# Altium footprint library st-microelectronics.PCBLIB: 49 footprints (part 2 of 4)
Each footprint in its own frame and in the unit in brackets; x right, y up, seen from the top. Pads: shape width x height; smd on the part's side, far side on the other; paste and mask are expansions set on the pad; w line width, h text height; cw(c..) or ccw(c..) is an arc to the next point about the centre after c.
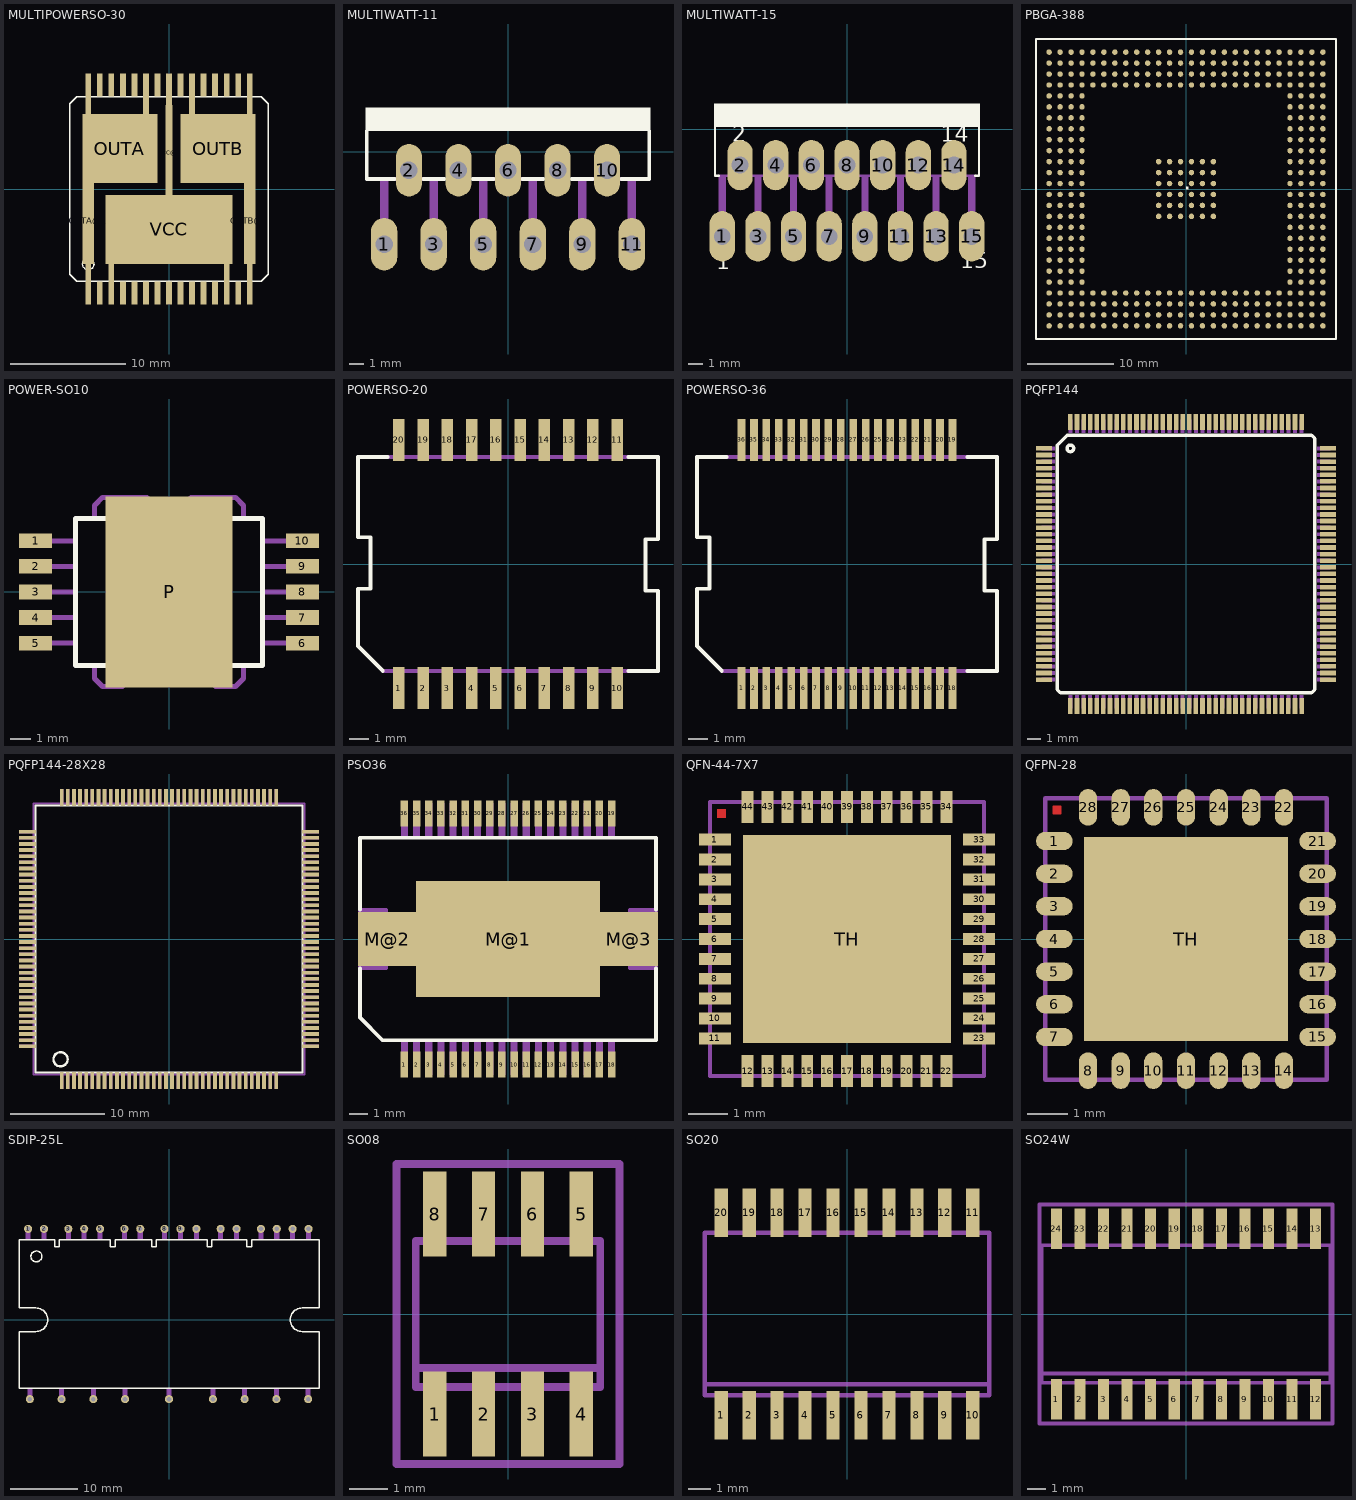
[diagram p1: the footprints below, top view; thin cyan lines are the x and y axes]

## MULTIPOWERSO-30 [mm]
pads (36):
  rect 0.508x12 smd: 1(-7,-4) 15(7,-4) 16(7,4) 30(-7,4)
  rect 0.508x2 smd: 2(-6,-9) 4(-4,-9) 5(-3,-9) 6(-2,-9) 7(-1,-9) 8(0,-9) 9(1,-9) 10(2,-9) 11(3,-9) 12(4,-9) 14(6,-9) 17(6,9) 18(5,9) 19(4,9) 20(3,9) 22(1,9) 24(-1,9) 26(-3,9) 27(-4,9) 28(-5,9) 29(-6,9)
  rect 0.508x4 smd: 3(-5,-8) 13(5,-8) 21(2,8) 23(0,8) 25(-2,8)
  rect 6.5x6 smd: OUTA(-4.25,3.5) OUTB(4.25,3.5)
  rect 1x7.5 smd: OUTA@1(-7,-2.755) OUTB@1(7,-2.755)
  rect 11x6 smd: VCC(0,-3.5)
  rect 0.65x8.3 smd: VCC@1(0,3.145)
Top Overlay:
  circle w0.127: c-7,-6.5 r0.5
  lines w0.127: -8.6,-7.4 -8,-8 8,-8 8.6,-7.4 8.6,7.4 8,8 -8,8 -8.6,7.4 -8.6,-7.4
Top Paste:
  circle w0: c-6,5.5 r0.3
  circle w0: c-4,5.5 r0.3
  circle w0: c-2,5.5 r0.3
  circle w0: c2,5.5 r0.3
  circle w0: c4,5.5 r0.3
  circle w0: c6,5.5 r0.3
  circle w0: c-6,3.5 r0.3
  circle w0: c-4,3.5 r0.3
  circle w0: c-2,3.5 r0.3
  circle w0: c2,3.5 r0.3
  circle w0: c4,3.5 r0.3
  circle w0: c6,3.5 r0.3
  circle w0: c-6,1.5 r0.3
  circle w0: c-4,1.5 r0.3
  circle w0: c-2,1.5 r0.3
  circle w0: c2,1.5 r0.3
  circle w0: c4,1.5 r0.3
  circle w0: c6,1.5 r0.3
  circle w0: c-4,-1.5 r0.3
  circle w0: c-2,-1.5 r0.3
  circle w0: c0,-1.5 r0.3
  circle w0: c2,-1.5 r0.3
  circle w0: c4,-1.5 r0.3
  circle w0: c-4,-3.5 r0.3
  circle w0: c-2,-3.5 r0.3
  circle w0: c0,-3.5 r0.3
  circle w0: c2,-3.5 r0.3
  circle w0: c4,-3.5 r0.3
  circle w0: c-4,-5.5 r0.3
  circle w0: c-2,-5.5 r0.3
  circle w0: c0,-5.5 r0.3
  circle w0: c2,-5.5 r0.3
  circle w0: c4,-5.5 r0.3
  rectangle: -7.25,7.995 -6.75,9.995
  rectangle: -2.25,7.995 -1.75,9.995
  rectangle: -0.25,7.995 0.25,9.995
  rectangle: 1.75,7.995 2.25,9.995
  rectangle: 6.75,7.995 7.25,9.995
  region: -6.75,-7.995 -7.25,-7.995 -7.25,-9.995 -6.75,-9.995
  region: -4.75,-7.995 -5.25,-7.995 -5.25,-9.995 -4.75,-9.995
  region: 5.25,-7.995 4.75,-7.995 4.75,-9.995 5.25,-9.995
  region: 7.25,-7.995 6.75,-7.995 6.75,-9.995 7.25,-9.995
Top Solder:
  circle w0: c-6,5.5 r0.4
  circle w0: c-4,5.5 r0.4
  circle w0: c-2,5.5 r0.4
  circle w0: c2,5.5 r0.4
  circle w0: c4,5.5 r0.4
  circle w0: c6,5.5 r0.4
  circle w0: c-6,3.5 r0.4
  circle w0: c-4,3.5 r0.4
  circle w0: c-2,3.5 r0.4
  circle w0: c2,3.5 r0.4
  circle w0: c4,3.5 r0.4
  circle w0: c6,3.5 r0.4
  circle w0: c-6,1.5 r0.4
  circle w0: c-4,1.5 r0.4
  circle w0: c-2,1.5 r0.4
  circle w0: c2,1.5 r0.4
  circle w0: c4,1.5 r0.4
  circle w0: c6,1.5 r0.4
  circle w0: c-4,-1.5 r0.4
  circle w0: c-2,-1.5 r0.4
  circle w0: c0,-1.5 r0.4
  circle w0: c2,-1.5 r0.4
  circle w0: c4,-1.5 r0.4
  circle w0: c-4,-3.5 r0.4
  circle w0: c-2,-3.5 r0.4
  circle w0: c0,-3.5 r0.4
  circle w0: c2,-3.5 r0.4
  circle w0: c4,-3.5 r0.4
  circle w0: c-4,-5.5 r0.4
  circle w0: c-2,-5.5 r0.4
  circle w0: c0,-5.5 r0.4
  circle w0: c2,-5.5 r0.4
  circle w0: c4,-5.5 r0.4
  rectangle: -7.35,7.895 -6.65,10.095
  rectangle: -2.35,7.895 -1.65,10.095
  rectangle: -0.35,7.895 0.35,10.095
  rectangle: 1.65,7.895 2.35,10.095
  rectangle: 6.65,7.895 7.35,10.095
  region: -6.65,-7.895 -7.35,-7.895 -7.35,-10.095 -6.65,-10.095
  region: -4.65,-7.895 -5.35,-7.895 -5.35,-10.095 -4.65,-10.095
  region: 5.35,-7.895 4.65,-7.895 4.65,-10.095 5.35,-10.095
  region: 7.35,-7.895 6.65,-7.895 6.65,-10.095 7.35,-10.095

## MULTIWATT-11 [mil]
pads (11):
  oval 70.86x141.72 hole 47.24: 1(-334.65,-250) 2(-267.72,-50) 3(-200.79,-250) 4(-133.86,-50) 5(-66.93,-250) 6(0,-50) 7(66.93,-250) 8(133.86,-50) 9(200.79,-250) 10(267.72,-50) 11(334.65,-250)
Top Overlay:
  rectangle: -385.83,56.3 385.83,119.29
  lines w10: -381.89,56.3 -381.89,-73.62 -307.09,-73.62 ; -228.35,-73.62 -173.23,-73.62 ; -94.49,-73.62 -39.37,-73.62 ; 39.37,-73.62 94.49,-73.62 ; 173.23,-73.62 228.35,-73.62 ; 307.09,-73.62 381.89,-73.62 381.89,56.3
Mechanical 16:
  rectangle: -346.46,-258.66 -322.83,-211.42
  rectangle: -346.46,-215.35 -322.83,-77.56
  rectangle: -212.6,-258.66 -188.98,-211.42
  rectangle: -212.6,-215.35 -188.98,-77.56
  rectangle: -78.74,-258.66 -55.12,-211.42
  rectangle: -78.74,-215.35 -55.12,-77.56
  rectangle: 55.12,-258.66 78.74,-211.42
  rectangle: 55.12,-215.35 78.74,-77.56
  rectangle: 188.98,-258.66 212.6,-211.42
  rectangle: 188.98,-215.35 212.6,-77.56
  rectangle: 322.83,-258.66 346.46,-211.42
  rectangle: 322.83,-215.35 346.46,-77.56
  lines w10: -381.89,-73.62 381.89,-73.62

## MULTIWATT-15 [mil]
pads (15):
  oval 70.86x141.72 hole 47.24: 1(-350,-300) 2(-300,-100) 3(-250,-300) 4(-200,-100) 5(-150,-300) 6(-100,-100) 7(-50,-300) 8(0,-100) 9(50,-300) 10(100,-100) 11(150,-300) 12(200,-100) 13(250,-300) 14(300,-100) 15(350,-300)
Top Overlay:
  rectangle: -373.03,6.89 373.03,72.83
  lines w6: -370,10 -370,-130 -360,-130 ; 360,-130 370,-130 370,10
  text "1" at -367.22,-407.02 h77.5
  text "15" at 317.23,-404.69 h77.5
  text "2" at -321.91,-50 h77.5
  text "14" at 262.54,-50 h77.5
Mechanical 16:
  rectangle: -360,-240 -340,-130
  rectangle: -260,-240 -240,-130
  rectangle: -160,-240 -140,-130
  rectangle: -60,-240 -40,-130
  rectangle: 40,-240 60,-130
  rectangle: 140,-240 160,-130
  rectangle: 240,-240 260,-130
  rectangle: 340,-240 360,-130
  lines w6: -360,-130 360,-130

## PBGA-388 [mil]
pads (388):
  rrect100% 25x25 smd: A1(-625,625) A2(-575,625) A3(-525,625) A4(-475,625) A5(-425,625) A6(-375,625) A7(-325,625) A8(-275,625) A9(-225,625) A10(-175,625) A11(-125,625) A12(-75,625) A13(-25,625) A14(25,625) A15(75,625) A16(125,625) A17(175,625) A18(225,625) A19(275,625) A20(325,625) A21(375,625) A22(425,625) A23(475,625) A24(525,625) A25(575,625) A26(625,625) AA1(-625,-375) AA2(-575,-375) AA3(-525,-375) AA4(-475,-375) AA23(475,-375) AA24(525,-375) AA25(575,-375) AA26(625,-375) AB1(-625,-425) AB2(-575,-425) AB3(-525,-425) AB4(-475,-425) AB23(475,-425) AB24(525,-425) AB25(575,-425) AB26(625,-425) AC1(-625,-475) AC2(-575,-475) AC3(-525,-475) AC4(-475,-475) AC5(-425,-475) AC6(-375,-475) AC7(-325,-475) AC8(-275,-475) AC9(-225,-475) AC10(-175,-475) AC11(-125,-475) AC12(-75,-475) AC13(-25,-475) AC14(25,-475) AC15(75,-475) AC16(125,-475) AC17(175,-475) AC18(225,-475) AC19(275,-475) AC20(325,-475) AC21(375,-475) AC22(425,-475) AC23(475,-475) AC24(525,-475) AC25(575,-475) AC26(625,-475) AD1(-625,-525) AD2(-575,-525) AD3(-525,-525) AD4(-475,-525) AD5(-425,-525) AD6(-375,-525) AD7(-325,-525) AD8(-275,-525) AD9(-225,-525) AD10(-175,-525) AD11(-125,-525) AD12(-75,-525) AD13(-25,-525) AD14(25,-525) AD15(75,-525) AD16(125,-525) AD17(175,-525) AD18(225,-525) AD19(275,-525) AD20(325,-525) AD21(375,-525) AD22(425,-525) AD23(475,-525) AD24(525,-525) AD25(575,-525) AD26(625,-525) AE1(-625,-575) AE2(-575,-575) AE3(-525,-575) AE4(-475,-575) AE5(-425,-575) AE6(-375,-575) AE7(-325,-575) AE8(-275,-575) AE9(-225,-575) AE10(-175,-575) AE11(-125,-575) AE12(-75,-575) AE13(-25,-575) AE14(25,-575) AE15(75,-575) AE16(125,-575) AE17(175,-575) AE18(225,-575) AE19(275,-575) AE20(325,-575) AE21(375,-575) AE22(425,-575) AE23(475,-575) AE24(525,-575) AE25(575,-575) AE26(625,-575) AF1(-625,-625) AF2(-575,-625) AF3(-525,-625) AF4(-475,-625) AF5(-425,-625) AF6(-375,-625) AF7(-325,-625) AF8(-275,-625) AF9(-225,-625) AF10(-175,-625) AF11(-125,-625) AF12(-75,-625) AF13(-25,-625) AF14(25,-625) AF15(75,-625) AF16(125,-625) AF17(175,-625) AF18(225,-625) AF19(275,-625) AF20(325,-625) AF21(375,-625) AF22(425,-625) AF23(475,-625) AF24(525,-625) AF25(575,-625) AF26(625,-625) B1(-625,575) B2(-575,575) B3(-525,575) B4(-475,575) B5(-425,575) B6(-375,575) B7(-325,575) B8(-275,575) B9(-225,575) B10(-175,575) B11(-125,575) B12(-75,575) B13(-25,575) B14(25,575) B15(75,575) B16(125,575) B17(175,575) B18(225,575) B19(275,575) B20(325,575) B21(375,575) B22(425,575) B23(475,575) B24(525,575) B25(575,575) B26(625,575) C1(-625,525) C2(-575,525) C3(-525,525) C4(-475,525) C5(-425,525) C6(-375,525) C7(-325,525) C8(-275,525) C9(-225,525) C10(-175,525) C11(-125,525) C12(-75,525) C13(-25,525) C14(25,525) C15(75,525) C16(125,525) C17(175,525) C18(225,525) C19(275,525) C20(325,525) C21(375,525) C22(425,525) C23(475,525) C24(525,525) C25(575,525) C26(625,525) D1(-625,475) D2(-575,475) D3(-525,475) D4(-475,475) D5(-425,475) D6(-375,475) D7(-325,475) D8(-275,475) D9(-225,475) D10(-175,475) D11(-125,475) D12(-75,475) D13(-25,475) D14(25,475) D15(75,475) D16(125,475) D17(175,475) D18(225,475) D19(275,475) D20(325,475) D21(375,475) D22(425,475) D23(475,475) D24(525,475) D25(575,475) D26(625,475) E1(-625,425) E2(-575,425) E3(-525,425) E4(-475,425) E23(475,425) E24(525,425) E25(575,425) E26(625,425) F1(-625,375) F2(-575,375) F3(-525,375) F4(-475,375) F23(475,375) F24(525,375) F25(575,375) F26(625,375) G1(-625,325) G2(-575,325) G3(-525,325) G4(-475,325) G23(475,325) G24(525,325) G25(575,325) G26(625,325) H1(-625,275) H2(-575,275) H3(-525,275) H4(-475,275) H23(475,275) H24(525,275) H25(575,275) H26(625,275) J1(-625,225) J2(-575,225) J3(-525,225) J4(-475,225) J23(475,225) J24(525,225) J25(575,225) J26(625,225) K1(-625,175) K2(-575,175) K3(-525,175) K4(-475,175) K23(475,175) K24(525,175) K25(575,175) K26(625,175) L1(-625,125) L2(-575,125) L3(-525,125) L4(-475,125) L11(-125,125) L12(-75,125) L13(-25,125) L14(25,125) L15(75,125) L16(125,125) L23(475,125) L24(525,125) L25(575,125) L26(625,125) M1(-625,75) M2(-575,75) M3(-525,75) M4(-475,75) M11(-125,75) M12(-75,75) M13(-25,75) M14(25,75) M15(75,75) M16(125,75) M23(475,75) M24(525,75) M25(575,75) M26(625,75) N1(-625,25) N2(-575,25) N3(-525,25) N4(-475,25) N11(-125,25) N12(-75,25) N13(-25,25) N14(25,25) N15(75,25) N16(125,25) N23(475,25) N24(525,25) N25(575,25) N26(625,25) P1(-625,-25) P2(-575,-25) P3(-525,-25) P4(-475,-25) P11(-125,-25) P12(-75,-25) P13(-25,-25) P14(25,-25) P15(75,-25) P16(125,-25) P23(475,-25) P24(525,-25) P25(575,-25) P26(625,-25) R1(-625,-75) R2(-575,-75) R3(-525,-75) R4(-475,-75) R11(-125,-75) R12(-75,-75) R13(-25,-75) R14(25,-75) R15(75,-75) R16(125,-75) R23(475,-75) R24(525,-75) R25(575,-75) R26(625,-75) T1(-625,-125) T2(-575,-125) T3(-525,-125) T4(-475,-125) T11(-125,-125) T12(-75,-125) T13(-25,-125) T14(25,-125) T15(75,-125) T16(125,-125) T23(475,-125) T24(525,-125) T25(575,-125) T26(625,-125) U1(-625,-175) U2(-575,-175) U3(-525,-175) U4(-475,-175) U23(475,-175) U24(525,-175) U25(575,-175) U26(625,-175) V1(-625,-225) V2(-575,-225) V3(-525,-225) V4(-475,-225) V23(475,-225) V24(525,-225) V25(575,-225) V26(625,-225) W1(-625,-275) W2(-575,-275) W3(-525,-275) W4(-475,-275) W23(475,-275) W24(525,-275) W25(575,-275) W26(625,-275) Y1(-625,-325) Y2(-575,-325) Y3(-525,-325) Y4(-475,-325) Y23(475,-325) Y24(525,-325) Y25(575,-325) Y26(625,-325)
Top Overlay:
  region: 0,0 10,0 10,10 0,10
  lines w8: -685.04,-685.04 685.04,-685.04 685.04,685.04 -685.04,685.04 -685.04,-685.04

## POWER-SO10 [mm]
pads (11):
  rect 1.65x0.73 smd: 1(-6.625,2.54) 2(-6.625,1.27) 3(-6.625,0) 4(-6.625,-1.27) 5(-6.625,-2.54) 6(6.625,-2.54) 7(6.625,-1.27) 8(6.625,0) 9(6.625,1.27) 10(6.625,2.54)
  rect 6.3x9.5 smd: P(0,0)
Top Overlay:
  lines w0.254: -1,3.6 ccw(c0,3.6) 1,3.6 ; -4.65,-3.65 4.65,-3.65 4.65,3.65 -4.65,3.65 -4.65,-3.65
Mechanical 16:
  rectangle: -7.175,2.413 -4.635,2.667
  rectangle: -7.175,1.143 -4.635,1.397
  rectangle: -7.175,-0.127 -4.635,0.127
  rectangle: -7.175,-1.397 -4.635,-1.143
  rectangle: -7.175,-2.667 -4.635,-2.413
  rectangle: 4.635,-2.667 7.175,-2.413
  rectangle: 4.635,-1.397 7.175,-1.143
  rectangle: 4.635,-0.127 7.175,0.127
  rectangle: 4.635,1.143 7.175,1.397
  rectangle: 4.635,2.413 7.175,2.667
  lines w0.254: -3.7,-3.8 -3.7,-4.3 -3.3,-4.7 -2.3,-4.7 -2.3,-4.5 -2.1,-4.3 2.1,-4.3 2.3,-4.5 2.3,-4.7 3.3,-4.7 3.7,-4.3 3.7,-3.8 ; -3.7,3.8 -3.7,4.3 -3.3,4.7 -1.1,4.7 ccw(c0,5.9) 1.1,4.7 3.3,4.7 3.7,4.3 3.7,3.8

## POWERSO-20 [mil]
pads (20):
  rect 23.62x86.61 smd: 1(-225,-255.91) 2(-175,-255.91) 3(-125,-255.91) 4(-75,-255.91) 5(-25,-255.91) 6(25,-255.91) 7(75,-255.91) 8(125,-255.91) 9(175,-255.91) 10(225,-255.91) 11(225,255.91) 12(175,255.91) 13(125,255.91) 14(75,255.91) 15(25,255.91) 16(-25,255.91) 17(-75,255.91) 18(-125,255.91) 19(-175,255.91) 20(-225,255.91)
Top Overlay:
  lines w8: -309.45,220.47 -309.45,55.12 -283.46,55.12 -283.46,-51.18 -309.45,-51.18 -309.45,-169.29 -258.27,-220.47 ; -307.09,220.47 -248.03,220.47 ; 248.03,-220.47 307.09,-220.47 ; 248.03,220.47 307.09,220.47 ; 309.45,-220.47 309.45,-55.12 283.46,-55.12 283.46,51.18 309.45,51.18 309.45,220.47
Mechanical 16:
  rectangle: -234.65,-284.25 -215.35,-224.41
  rectangle: -184.65,-284.25 -165.35,-224.41
  rectangle: -134.65,-284.25 -115.35,-224.41
  rectangle: -84.65,-284.25 -65.35,-224.41
  rectangle: -34.65,-284.25 -15.35,-224.41
  rectangle: 15.35,-284.25 34.65,-224.41
  rectangle: 65.35,-284.25 84.65,-224.41
  rectangle: 115.35,-284.25 134.65,-224.41
  rectangle: 165.35,-284.25 184.65,-224.41
  rectangle: 215.35,-284.25 234.65,-224.41
  rectangle: 215.35,224.41 234.65,284.25
  rectangle: 165.35,224.41 184.65,284.25
  rectangle: 115.35,224.41 134.65,284.25
  rectangle: 65.35,224.41 84.65,284.25
  rectangle: 15.35,224.41 34.65,284.25
  rectangle: -34.65,224.41 -15.35,284.25
  rectangle: -84.65,224.41 -65.35,284.25
  rectangle: -134.65,224.41 -115.35,284.25
  rectangle: -184.65,224.41 -165.35,284.25
  rectangle: -234.65,224.41 -215.35,284.25
  lines w8: -309.45,220.47 309.45,220.47 ; -258.27,-220.47 309.45,-220.47

## POWERSO-36 [mm]
pads (36):
  rect 0.4x2.2 smd: 1(-5.525,-6.5) 2(-4.875,-6.5) 3(-4.225,-6.5) 4(-3.575,-6.5) 5(-2.925,-6.5) 6(-2.275,-6.5) 7(-1.625,-6.5) 8(-0.975,-6.5) 9(-0.325,-6.5) 10(0.325,-6.5) 11(0.975,-6.5) 12(1.625,-6.5) 13(2.275,-6.5) 14(2.925,-6.5) 15(3.575,-6.5) 16(4.225,-6.5) 17(4.875,-6.5) 18(5.525,-6.5) 19(5.525,6.5) 20(4.875,6.5) 21(4.225,6.5) 22(3.575,6.5) 23(2.925,6.5) 24(2.275,6.5) 25(1.625,6.5) 26(0.975,6.5) 27(0.325,6.5) 28(-0.325,6.5) 29(-0.975,6.5) 30(-1.625,6.5) 31(-2.275,6.5) 32(-2.925,6.5) 33(-3.575,6.5) 34(-4.225,6.5) 35(-4.875,6.5) 36(-5.525,6.5)
Top Overlay:
  lines w0.203: -7.86,5.6 -7.86,1.4 -7.2,1.4 -7.2,-1.3 -7.86,-1.3 -7.86,-4.3 -6.56,-5.6 ; -7.8,5.6 -6.3,5.6 ; 6.3,-5.6 7.8,-5.6 ; 6.3,5.6 7.8,5.6 ; 7.86,-5.6 7.86,-1.4 7.2,-1.4 7.2,1.3 7.86,1.3 7.86,5.6
Mechanical 16:
  rectangle: -5.7,-7.225 -5.35,-5.675
  rectangle: -5.05,-7.225 -4.7,-5.675
  rectangle: -4.4,-7.225 -4.05,-5.675
  rectangle: -3.75,-7.225 -3.4,-5.675
  rectangle: -3.1,-7.225 -2.75,-5.675
  rectangle: -2.45,-7.225 -2.1,-5.675
  rectangle: -1.8,-7.225 -1.45,-5.675
  rectangle: -1.15,-7.225 -0.8,-5.675
  rectangle: -0.5,-7.225 -0.15,-5.675
  rectangle: 0.15,-7.225 0.5,-5.675
  rectangle: 0.8,-7.225 1.15,-5.675
  rectangle: 1.45,-7.225 1.8,-5.675
  rectangle: 2.1,-7.225 2.45,-5.675
  rectangle: 2.75,-7.225 3.1,-5.675
  rectangle: 3.4,-7.225 3.75,-5.675
  rectangle: 4.05,-7.225 4.4,-5.675
  rectangle: 4.7,-7.225 5.05,-5.675
  rectangle: 5.35,-7.225 5.7,-5.675
  rectangle: 5.35,5.675 5.7,7.225
  rectangle: 4.7,5.675 5.05,7.225
  rectangle: 4.05,5.675 4.4,7.225
  rectangle: 3.4,5.675 3.75,7.225
  rectangle: 2.75,5.675 3.1,7.225
  rectangle: 2.1,5.675 2.45,7.225
  rectangle: 1.45,5.675 1.8,7.225
  rectangle: 0.8,5.675 1.15,7.225
  rectangle: 0.15,5.675 0.5,7.225
  rectangle: -0.5,5.675 -0.15,7.225
  rectangle: -1.15,5.675 -0.8,7.225
  rectangle: -1.8,5.675 -1.45,7.225
  rectangle: -2.45,5.675 -2.1,7.225
  rectangle: -3.1,5.675 -2.75,7.225
  rectangle: -3.75,5.675 -3.4,7.225
  rectangle: -4.4,5.675 -4.05,7.225
  rectangle: -5.05,5.675 -4.7,7.225
  rectangle: -5.7,5.675 -5.35,7.225
  lines w0.203: -7.86,5.6 7.86,5.6 ; -6.56,-5.6 7.86,-5.6

## PQFP144 [mm]
pads (144):
  rect 1.2x0.35 smd: 1(-10.75,8.75) 2(-10.75,8.25) 3(-10.75,7.75) 4(-10.75,7.25) 5(-10.75,6.75) 6(-10.75,6.25) 7(-10.75,5.75) 8(-10.75,5.25) 9(-10.75,4.75) 10(-10.75,4.25) 11(-10.75,3.75) 12(-10.75,3.25) 13(-10.75,2.75) 14(-10.75,2.25) 15(-10.75,1.75) 16(-10.75,1.25) 17(-10.75,0.75) 18(-10.75,0.25) 19(-10.75,-0.25) 20(-10.75,-0.75) 21(-10.75,-1.25) 22(-10.75,-1.75) 23(-10.75,-2.25) 24(-10.75,-2.75) 25(-10.75,-3.25) 26(-10.75,-3.75) 27(-10.75,-4.25) 28(-10.75,-4.75) 29(-10.75,-5.25) 30(-10.75,-5.75) 31(-10.75,-6.25) 32(-10.75,-6.75) 33(-10.75,-7.25) 34(-10.75,-7.75) 35(-10.75,-8.25) 36(-10.75,-8.75) 73(10.75,-8.75) 74(10.75,-8.25) 75(10.75,-7.75) 76(10.75,-7.25) 77(10.75,-6.75) 78(10.75,-6.25) 79(10.75,-5.75) 80(10.75,-5.25) 81(10.75,-4.75) 82(10.75,-4.25) 83(10.75,-3.75) 84(10.75,-3.25) 85(10.75,-2.75) 86(10.75,-2.25) 87(10.75,-1.75) 88(10.75,-1.25) 89(10.75,-0.75) 90(10.75,-0.25) 91(10.75,0.25) 92(10.75,0.75) 93(10.75,1.25) 94(10.75,1.75) 95(10.75,2.25) 96(10.75,2.75) 97(10.75,3.25) 98(10.75,3.75) 99(10.75,4.25) 100(10.75,4.75) 101(10.75,5.25) 102(10.75,5.75) 103(10.75,6.25) 104(10.75,6.75) 105(10.75,7.25) 106(10.75,7.75) 107(10.75,8.25) 108(10.75,8.75)
  rect 0.35x1.2 smd: 37(-8.75,-10.75) 38(-8.25,-10.75) 39(-7.75,-10.75) 40(-7.25,-10.75) 41(-6.75,-10.75) 42(-6.25,-10.75) 43(-5.75,-10.75) 44(-5.25,-10.75) 45(-4.75,-10.75) 46(-4.25,-10.75) 47(-3.75,-10.75) 48(-3.25,-10.75) 49(-2.75,-10.75) 50(-2.25,-10.75) 51(-1.75,-10.75) 52(-1.25,-10.75) 53(-0.75,-10.75) 54(-0.25,-10.75) 55(0.25,-10.75) 56(0.75,-10.75) 57(1.25,-10.75) 58(1.75,-10.75) 59(2.25,-10.75) 60(2.75,-10.75) 61(3.25,-10.75) 62(3.75,-10.75) 63(4.25,-10.75) 64(4.75,-10.75) 65(5.25,-10.75) 66(5.75,-10.75) 67(6.25,-10.75) 68(6.75,-10.75) 69(7.25,-10.75) 70(7.75,-10.75) 71(8.25,-10.75) 72(8.75,-10.75) 109(8.75,10.75) 110(8.25,10.75) 111(7.75,10.75) 112(7.25,10.75) 113(6.75,10.75) 114(6.25,10.75) 115(5.75,10.75) 116(5.25,10.75) 117(4.75,10.75) 118(4.25,10.75) 119(3.75,10.75) 120(3.25,10.75) 121(2.75,10.75) 122(2.25,10.75) 123(1.75,10.75) 124(1.25,10.75) 125(0.75,10.75) 126(0.25,10.75) 127(-0.25,10.75) 128(-0.75,10.75) 129(-1.25,10.75) 130(-1.75,10.75) 131(-2.25,10.75) 132(-2.75,10.75) 133(-3.25,10.75) 134(-3.75,10.75) 135(-4.25,10.75) 136(-4.75,10.75) 137(-5.25,10.75) 138(-5.75,10.75) 139(-6.25,10.75) 140(-6.75,10.75) 141(-7.25,10.75) 142(-7.75,10.75) 143(-8.25,10.75) 144(-8.75,10.75)
Top Overlay:
  circle w0.254: c-8.75,8.75 r0.25
  lines w0.254: -9.75,-9.5 -9.5,-9.75 9.5,-9.75 9.75,-9.5 9.75,9.5 9.5,9.75 -9,9.75 -9.75,9 -9.75,-9.5
Mechanical 16:
  rectangle: -10.95,8.6 -9.9,8.9
  rectangle: -10.95,8.1 -9.9,8.4
  rectangle: -10.95,7.6 -9.9,7.9
  rectangle: -10.95,7.1 -9.9,7.4
  rectangle: -10.95,6.6 -9.9,6.9
  rectangle: -10.95,6.1 -9.9,6.4
  rectangle: -10.95,5.6 -9.9,5.9
  rectangle: -10.95,5.1 -9.9,5.4
  rectangle: -10.95,4.6 -9.9,4.9
  rectangle: -10.95,4.1 -9.9,4.4
  rectangle: -10.95,3.6 -9.9,3.9
  rectangle: -10.95,3.1 -9.9,3.4
  rectangle: -10.95,2.6 -9.9,2.9
  rectangle: -10.95,2.1 -9.9,2.4
  rectangle: -10.95,1.6 -9.9,1.9
  rectangle: -10.95,1.1 -9.9,1.4
  rectangle: -10.95,0.6 -9.9,0.9
  rectangle: -10.95,0.1 -9.9,0.4
  rectangle: -10.95,-0.4 -9.9,-0.1
  rectangle: -10.95,-0.9 -9.9,-0.6
  rectangle: -10.95,-1.4 -9.9,-1.1
  rectangle: -10.95,-1.9 -9.9,-1.6
  rectangle: -10.95,-2.4 -9.9,-2.1
  rectangle: -10.95,-2.9 -9.9,-2.6
  rectangle: -10.95,-3.4 -9.9,-3.1
  rectangle: -10.95,-3.9 -9.9,-3.6
  rectangle: -10.95,-4.4 -9.9,-4.1
  rectangle: -10.95,-4.9 -9.9,-4.6
  rectangle: -10.95,-5.4 -9.9,-5.1
  rectangle: -10.95,-5.9 -9.9,-5.6
  rectangle: -10.95,-6.4 -9.9,-6.1
  rectangle: -10.95,-6.9 -9.9,-6.6
  rectangle: -10.95,-7.4 -9.9,-7.1
  rectangle: -10.95,-7.9 -9.9,-7.6
  rectangle: -10.95,-8.4 -9.9,-8.1
  rectangle: -10.95,-8.9 -9.9,-8.6
  rectangle: -8.9,-10.95 -8.6,-9.9
  rectangle: -8.4,-10.95 -8.1,-9.9
  rectangle: -7.9,-10.95 -7.6,-9.9
  rectangle: -7.4,-10.95 -7.1,-9.9
  rectangle: -6.9,-10.95 -6.6,-9.9
  rectangle: -6.4,-10.95 -6.1,-9.9
  rectangle: -5.9,-10.95 -5.6,-9.9
  rectangle: -5.4,-10.95 -5.1,-9.9
  rectangle: -4.9,-10.95 -4.6,-9.9
  rectangle: -4.4,-10.95 -4.1,-9.9
  rectangle: -3.9,-10.95 -3.6,-9.9
  rectangle: -3.4,-10.95 -3.1,-9.9
  rectangle: -2.9,-10.95 -2.6,-9.9
  rectangle: -2.4,-10.95 -2.1,-9.9
  rectangle: -1.9,-10.95 -1.6,-9.9
  rectangle: -1.4,-10.95 -1.1,-9.9
  rectangle: -0.9,-10.95 -0.6,-9.9
  rectangle: -0.4,-10.95 -0.1,-9.9
  rectangle: 0.1,-10.95 0.4,-9.9
  rectangle: 0.6,-10.95 0.9,-9.9
  rectangle: 1.1,-10.95 1.4,-9.9
  rectangle: 1.6,-10.95 1.9,-9.9
  rectangle: 2.1,-10.95 2.4,-9.9
  rectangle: 2.6,-10.95 2.9,-9.9
  rectangle: 3.1,-10.95 3.4,-9.9
  rectangle: 3.6,-10.95 3.9,-9.9
  rectangle: 4.1,-10.95 4.4,-9.9
  rectangle: 4.6,-10.95 4.9,-9.9
  rectangle: 5.1,-10.95 5.4,-9.9
  rectangle: 5.6,-10.95 5.9,-9.9
  rectangle: 6.1,-10.95 6.4,-9.9
  rectangle: 6.6,-10.95 6.9,-9.9
  rectangle: 7.1,-10.95 7.4,-9.9
  rectangle: 7.6,-10.95 7.9,-9.9
  rectangle: 8.1,-10.95 8.4,-9.9
  rectangle: 8.6,-10.95 8.9,-9.9
  rectangle: 9.9,-8.9 10.95,-8.6
  rectangle: 9.9,-8.4 10.95,-8.1
  rectangle: 9.9,-7.9 10.95,-7.6
  rectangle: 9.9,-7.4 10.95,-7.1
  rectangle: 9.9,-6.9 10.95,-6.6
  rectangle: 9.9,-6.4 10.95,-6.1
  rectangle: 9.9,-5.9 10.95,-5.6
  rectangle: 9.9,-5.4 10.95,-5.1
  rectangle: 9.9,-4.9 10.95,-4.6
  rectangle: 9.9,-4.4 10.95,-4.1
  rectangle: 9.9,-3.9 10.95,-3.6
  rectangle: 9.9,-3.4 10.95,-3.1
  rectangle: 9.9,-2.9 10.95,-2.6
  rectangle: 9.9,-2.4 10.95,-2.1
  rectangle: 9.9,-1.9 10.95,-1.6
  rectangle: 9.9,-1.4 10.95,-1.1
  rectangle: 9.9,-0.9 10.95,-0.6
  rectangle: 9.9,-0.4 10.95,-0.1
  rectangle: 9.9,0.1 10.95,0.4
  rectangle: 9.9,0.6 10.95,0.9
  rectangle: 9.9,1.1 10.95,1.4
  rectangle: 9.9,1.6 10.95,1.9
  rectangle: 9.9,2.1 10.95,2.4
  rectangle: 9.9,2.6 10.95,2.9
  rectangle: 9.9,3.1 10.95,3.4
  rectangle: 9.9,3.6 10.95,3.9
  rectangle: 9.9,4.1 10.95,4.4
  rectangle: 9.9,4.6 10.95,4.9
  rectangle: 9.9,5.1 10.95,5.4
  rectangle: 9.9,5.6 10.95,5.9
  rectangle: 9.9,6.1 10.95,6.4
  rectangle: 9.9,6.6 10.95,6.9
  rectangle: 9.9,7.1 10.95,7.4
  rectangle: 9.9,7.6 10.95,7.9
  rectangle: 9.9,8.1 10.95,8.4
  rectangle: 9.9,8.6 10.95,8.9
  rectangle: 8.6,9.9 8.9,10.95
  rectangle: 8.1,9.9 8.4,10.95
  rectangle: 7.6,9.9 7.9,10.95
  rectangle: 7.1,9.9 7.4,10.95
  rectangle: 6.6,9.9 6.9,10.95
  rectangle: 6.1,9.9 6.4,10.95
  rectangle: 5.6,9.9 5.9,10.95
  rectangle: 5.1,9.9 5.4,10.95
  rectangle: 4.6,9.9 4.9,10.95
  rectangle: 4.1,9.9 4.4,10.95
  rectangle: 3.6,9.9 3.9,10.95
  rectangle: 3.1,9.9 3.4,10.95
  rectangle: 2.6,9.9 2.9,10.95
  rectangle: 2.1,9.9 2.4,10.95
  rectangle: 1.6,9.9 1.9,10.95
  rectangle: 1.1,9.9 1.4,10.95
  rectangle: 0.6,9.9 0.9,10.95
  rectangle: 0.1,9.9 0.4,10.95
  rectangle: -0.4,9.9 -0.1,10.95
  rectangle: -0.9,9.9 -0.6,10.95
  rectangle: -1.4,9.9 -1.1,10.95
  rectangle: -1.9,9.9 -1.6,10.95
  rectangle: -2.4,9.9 -2.1,10.95
  rectangle: -2.9,9.9 -2.6,10.95
  rectangle: -3.4,9.9 -3.1,10.95
  rectangle: -3.9,9.9 -3.6,10.95
  rectangle: -4.4,9.9 -4.1,10.95
  rectangle: -4.9,9.9 -4.6,10.95
  rectangle: -5.4,9.9 -5.1,10.95
  rectangle: -5.9,9.9 -5.6,10.95
  rectangle: -6.4,9.9 -6.1,10.95
  rectangle: -6.9,9.9 -6.6,10.95
  rectangle: -7.4,9.9 -7.1,10.95
  rectangle: -7.9,9.9 -7.6,10.95
  rectangle: -8.4,9.9 -8.1,10.95
  rectangle: -8.9,9.9 -8.6,10.95
  text "PGE(S-PQFP-G144)" at -3.81,-8.23 h0.94

## PQFP144-28X28 [mm]
pads (144):
  rect 0.4x1.8 smd: 1(-11.375,-15) 2(-10.725,-15) 3(-10.075,-15) 4(-9.425,-15) 5(-8.775,-15) 6(-8.125,-15) 7(-7.475,-15) 8(-6.825,-15) 9(-6.175,-15) 10(-5.525,-15) 11(-4.875,-15) 12(-4.225,-15) 13(-3.575,-15) 14(-2.925,-15) 15(-2.275,-15) 16(-1.625,-15) 17(-0.975,-15) 18(-0.325,-15) 19(0.325,-15) 20(0.975,-15) 21(1.625,-15) 22(2.275,-15) 23(2.925,-15) 24(3.575,-15) 25(4.225,-15) 26(4.875,-15) 27(5.525,-15) 28(6.175,-15) 29(6.825,-15) 30(7.475,-15) 31(8.125,-15) 32(8.775,-15) 33(9.425,-15) 34(10.075,-15) 35(10.725,-15) 36(11.375,-15) 73(11.375,15) 74(10.725,15) 75(10.075,15) 76(9.425,15) 77(8.775,15) 78(8.125,15) 79(7.475,15) 80(6.825,15) 81(6.175,15) 82(5.525,15) 83(4.875,15) 84(4.225,15) 85(3.575,15) 86(2.925,15) 87(2.275,15) 88(1.625,15) 89(0.975,15) 90(0.325,15) 91(-0.325,15) 92(-0.975,15) 93(-1.625,15) 94(-2.275,15) 95(-2.925,15) 96(-3.575,15) 97(-4.225,15) 98(-4.875,15) 99(-5.525,15) 100(-6.175,15) 101(-6.825,15) 102(-7.475,15) 103(-8.125,15) 104(-8.775,15) 105(-9.425,15) 106(-10.075,15) 107(-10.725,15) 108(-11.375,15)
  rect 1.8x0.4 smd: 37(15,-11.375) 38(15,-10.725) 39(15,-10.075) 40(15,-9.425) 41(15,-8.775) 42(15,-8.125) 43(15,-7.475) 44(15,-6.825) 45(15,-6.175) 46(15,-5.525) 47(15,-4.875) 48(15,-4.225) 49(15,-3.575) 50(15,-2.925) 51(15,-2.275) 52(15,-1.625) 53(15,-0.975) 54(15,-0.325) 55(15,0.325) 56(15,0.975) 57(15,1.625) 58(15,2.275) 59(15,2.925) 60(15,3.575) 61(15,4.225) 62(15,4.875) 63(15,5.525) 64(15,6.175) 65(15,6.825) 66(15,7.475) 67(15,8.125) 68(15,8.775) 69(15,9.425) 70(15,10.075) 71(15,10.725) 72(15,11.375) 109(-15,11.375) 110(-15,10.725) 111(-15,10.075) 112(-15,9.425) 113(-15,8.775) 114(-15,8.125) 115(-15,7.475) 116(-15,6.825) 117(-15,6.175) 118(-15,5.525) 119(-15,4.875) 120(-15,4.225) 121(-15,3.575) 122(-15,2.925) 123(-15,2.275) 124(-15,1.625) 125(-15,0.975) 126(-15,0.325) 127(-15,-0.325) 128(-15,-0.975) 129(-15,-1.625) 130(-15,-2.275) 131(-15,-2.925) 132(-15,-3.575) 133(-15,-4.225) 134(-15,-4.875) 135(-15,-5.525) 136(-15,-6.175) 137(-15,-6.825) 138(-15,-7.475) 139(-15,-8.125) 140(-15,-8.775) 141(-15,-9.425) 142(-15,-10.075) 143(-15,-10.725) 144(-15,-11.375)
Top Overlay:
  circle w0.254: c-11.5,-12.75 r0.75
  lines w0.203: -14.17,-14.16 14.16,-14.16 14.16,14.16 -14.17,14.16 -14.17,-14.16
Mechanical 16:
  rectangle: -11.565,-15.9 -11.195,-14.45
  rectangle: -10.915,-15.9 -10.545,-14.45
  rectangle: -10.265,-15.9 -9.895,-14.45
  rectangle: -9.615,-15.9 -9.245,-14.45
  rectangle: -8.965,-15.9 -8.595,-14.45
  rectangle: -8.315,-15.9 -7.945,-14.45
  rectangle: -7.665,-15.9 -7.295,-14.45
  rectangle: -7.015,-15.9 -6.645,-14.45
  rectangle: -6.365,-15.9 -5.995,-14.45
  rectangle: -5.715,-15.9 -5.345,-14.45
  rectangle: -5.065,-15.9 -4.695,-14.45
  rectangle: -4.415,-15.9 -4.045,-14.45
  rectangle: -3.765,-15.9 -3.395,-14.45
  rectangle: -3.115,-15.9 -2.745,-14.45
  rectangle: -2.465,-15.9 -2.095,-14.45
  rectangle: -1.815,-15.9 -1.445,-14.45
  rectangle: -1.165,-15.9 -0.795,-14.45
  rectangle: -0.515,-15.9 -0.145,-14.45
  rectangle: 0.135,-15.9 0.505,-14.45
  rectangle: 0.785,-15.9 1.155,-14.45
  rectangle: 1.435,-15.9 1.805,-14.45
  rectangle: 2.085,-15.9 2.455,-14.45
  rectangle: 2.735,-15.9 3.105,-14.45
  rectangle: 3.385,-15.9 3.755,-14.45
  rectangle: 4.035,-15.9 4.405,-14.45
  rectangle: 4.685,-15.9 5.055,-14.45
  rectangle: 5.335,-15.9 5.705,-14.45
  rectangle: 5.985,-15.9 6.355,-14.45
  rectangle: 6.635,-15.9 7.005,-14.45
  rectangle: 7.285,-15.9 7.655,-14.45
  rectangle: 7.935,-15.9 8.305,-14.45
  rectangle: 8.585,-15.9 8.955,-14.45
  rectangle: 9.235,-15.9 9.605,-14.45
  rectangle: 9.885,-15.9 10.255,-14.45
  rectangle: 10.535,-15.9 10.905,-14.45
  rectangle: 11.185,-15.9 11.555,-14.45
  rectangle: 14.45,-11.565 15.9,-11.195
  rectangle: 14.45,-10.915 15.9,-10.545
  rectangle: 14.45,-10.265 15.9,-9.895
  rectangle: 14.45,-9.615 15.9,-9.245
  rectangle: 14.45,-8.965 15.9,-8.595
  rectangle: 14.45,-8.315 15.9,-7.945
  rectangle: 14.45,-7.665 15.9,-7.295
  rectangle: 14.45,-7.015 15.9,-6.645
  rectangle: 14.45,-6.365 15.9,-5.995
  rectangle: 14.45,-5.715 15.9,-5.345
  rectangle: 14.45,-5.065 15.9,-4.695
  rectangle: 14.45,-4.415 15.9,-4.045
  rectangle: 14.45,-3.765 15.9,-3.395
  rectangle: 14.45,-3.115 15.9,-2.745
  rectangle: 14.45,-2.465 15.9,-2.095
  rectangle: 14.45,-1.815 15.9,-1.445
  rectangle: 14.45,-1.165 15.9,-0.795
  rectangle: 14.45,-0.515 15.9,-0.145
  rectangle: 14.45,0.135 15.9,0.505
  rectangle: 14.45,0.785 15.9,1.155
  rectangle: 14.45,1.435 15.9,1.805
  rectangle: 14.45,2.085 15.9,2.455
  rectangle: 14.45,2.735 15.9,3.105
  rectangle: 14.45,3.385 15.9,3.755
  rectangle: 14.45,4.035 15.9,4.405
  rectangle: 14.45,4.685 15.9,5.055
  rectangle: 14.45,5.335 15.9,5.705
  rectangle: 14.45,5.985 15.9,6.355
  rectangle: 14.45,6.635 15.9,7.005
  rectangle: 14.45,7.285 15.9,7.655
  rectangle: 14.45,7.935 15.9,8.305
  rectangle: 14.45,8.585 15.9,8.955
  rectangle: 14.45,9.235 15.9,9.605
  rectangle: 14.45,9.885 15.9,10.255
  rectangle: 14.45,10.535 15.9,10.905
  rectangle: 14.45,11.185 15.9,11.555
  rectangle: 11.195,14.45 11.565,15.9
  rectangle: 10.545,14.45 10.915,15.9
  rectangle: 9.895,14.45 10.265,15.9
  rectangle: 9.245,14.45 9.615,15.9
  rectangle: 8.595,14.45 8.965,15.9
  rectangle: 7.945,14.45 8.315,15.9
  rectangle: 7.295,14.45 7.665,15.9
  rectangle: 6.645,14.45 7.015,15.9
  rectangle: 5.995,14.45 6.365,15.9
  rectangle: 5.345,14.45 5.715,15.9
  rectangle: 4.695,14.45 5.065,15.9
  rectangle: 4.045,14.45 4.415,15.9
  rectangle: 3.395,14.45 3.765,15.9
  rectangle: 2.745,14.45 3.115,15.9
  rectangle: 2.095,14.45 2.465,15.9
  rectangle: 1.445,14.45 1.815,15.9
  rectangle: 0.795,14.45 1.165,15.9
  rectangle: 0.145,14.45 0.515,15.9
  rectangle: -0.505,14.45 -0.135,15.9
  rectangle: -1.155,14.45 -0.785,15.9
  rectangle: -1.805,14.45 -1.435,15.9
  rectangle: -2.455,14.45 -2.085,15.9
  rectangle: -3.105,14.45 -2.735,15.9
  rectangle: -3.755,14.45 -3.385,15.9
  rectangle: -4.405,14.45 -4.035,15.9
  rectangle: -5.055,14.45 -4.685,15.9
  rectangle: -5.705,14.45 -5.335,15.9
  rectangle: -6.355,14.45 -5.985,15.9
  rectangle: -7.005,14.45 -6.635,15.9
  rectangle: -7.655,14.45 -7.285,15.9
  rectangle: -8.305,14.45 -7.935,15.9
  rectangle: -8.955,14.45 -8.585,15.9
  rectangle: -9.605,14.45 -9.235,15.9
  rectangle: -10.255,14.45 -9.885,15.9
  rectangle: -10.905,14.45 -10.535,15.9
  rectangle: -11.555,14.45 -11.185,15.9
  rectangle: -15.9,11.195 -14.45,11.565
  rectangle: -15.9,10.545 -14.45,10.915
  rectangle: -15.9,9.895 -14.45,10.265
  rectangle: -15.9,9.245 -14.45,9.615
  rectangle: -15.9,8.595 -14.45,8.965
  rectangle: -15.9,7.945 -14.45,8.315
  rectangle: -15.9,7.295 -14.45,7.665
  rectangle: -15.9,6.645 -14.45,7.015
  rectangle: -15.9,5.995 -14.45,6.365
  rectangle: -15.9,5.345 -14.45,5.715
  rectangle: -15.9,4.695 -14.45,5.065
  rectangle: -15.9,4.045 -14.45,4.415
  rectangle: -15.9,3.395 -14.45,3.765
  rectangle: -15.9,2.745 -14.45,3.115
  rectangle: -15.9,2.095 -14.45,2.465
  rectangle: -15.9,1.445 -14.45,1.815
  rectangle: -15.9,0.795 -14.45,1.165
  rectangle: -15.9,0.145 -14.45,0.515
  rectangle: -15.9,-0.505 -14.45,-0.135
  rectangle: -15.9,-1.155 -14.45,-0.785
  rectangle: -15.9,-1.805 -14.45,-1.435
  rectangle: -15.9,-2.455 -14.45,-2.085
  rectangle: -15.9,-3.105 -14.45,-2.735
  rectangle: -15.9,-3.755 -14.45,-3.385
  rectangle: -15.9,-4.405 -14.45,-4.035
  rectangle: -15.9,-5.055 -14.45,-4.685
  rectangle: -15.9,-5.705 -14.45,-5.335
  rectangle: -15.9,-6.355 -14.45,-5.985
  rectangle: -15.9,-7.005 -14.45,-6.635
  rectangle: -15.9,-7.655 -14.45,-7.285
  rectangle: -15.9,-8.305 -14.45,-7.935
  rectangle: -15.9,-8.955 -14.45,-8.585
  rectangle: -15.9,-9.605 -14.45,-9.235
  rectangle: -15.9,-10.255 -14.45,-9.885
  rectangle: -15.9,-10.905 -14.45,-10.535
  rectangle: -15.9,-11.555 -14.45,-11.185
  lines w0.203: -14.36,-14.36 14.36,-14.36 14.36,14.36 -14.36,14.36 -14.36,-14.36

## PSO36 [mm]
pads (39):
  rect 0.4x1.4 smd: 1(-5.525,-6.7) 2(-4.875,-6.7) 3(-4.225,-6.7) 4(-3.575,-6.7) 5(-2.925,-6.7) 6(-2.275,-6.7) 7(-1.625,-6.7) 8(-0.975,-6.7) 9(-0.325,-6.7) 10(0.325,-6.7) 11(0.975,-6.7) 12(1.625,-6.7) 13(2.275,-6.7) 14(2.925,-6.7) 15(3.575,-6.7) 16(4.225,-6.7) 17(4.875,-6.7) 18(5.525,-6.7) 19(5.525,6.7) 20(4.875,6.7) 21(4.225,6.7) 22(3.575,6.7) 23(2.925,6.7) 24(2.275,6.7) 25(1.625,6.7) 26(0.975,6.7) 27(0.325,6.7) 28(-0.325,6.7) 29(-0.975,6.7) 30(-1.625,6.7) 31(-2.275,6.7) 32(-2.925,6.7) 33(-3.575,6.7) 34(-4.225,6.7) 35(-4.875,6.7) 36(-5.525,6.7)
  rect 9.8x6.2 smd: M@1(0,0)
  rect 3.1x2.9 smd: M@2(-6.45,0) M@3(6.45,0)
Top Overlay:
  lines w0.203: -7.9,-1.56 -7.9,-4.19 -6.69,-5.4 7.9,-5.4 7.9,-1.56 ; -7.9,1.56 -7.9,5.4 7.9,5.4 7.9,1.56
Top Paste:
  region: 0,0 0.254,0 0.254,0.254 0,0.254
Top Solder:
  region: 0,0 0.254,0 0.254,0.254 0,0.254
Mechanical 16:
  rectangle: -5.715,-7.25 -5.335,-5.5
  rectangle: -5.065,-7.25 -4.685,-5.5
  rectangle: -4.415,-7.25 -4.035,-5.5
  rectangle: -3.765,-7.25 -3.385,-5.5
  rectangle: -3.115,-7.25 -2.735,-5.5
  rectangle: -2.465,-7.25 -2.085,-5.5
  rectangle: -1.815,-7.25 -1.435,-5.5
  rectangle: -1.165,-7.25 -0.785,-5.5
  rectangle: -0.515,-7.25 -0.135,-5.5
  rectangle: 0.135,-7.25 0.515,-5.5
  rectangle: 0.785,-7.25 1.165,-5.5
  rectangle: 1.435,-7.25 1.815,-5.5
  rectangle: 2.085,-7.25 2.465,-5.5
  rectangle: 2.735,-7.25 3.115,-5.5
  rectangle: 3.385,-7.25 3.765,-5.5
  rectangle: 4.035,-7.25 4.415,-5.5
  rectangle: 4.685,-7.25 5.065,-5.5
  rectangle: 5.335,-7.25 5.715,-5.5
  region: 5.715,7.25 5.335,7.25 5.335,5.5 5.715,5.5
  region: 5.065,7.25 4.685,7.25 4.685,5.5 5.065,5.5
  region: 4.415,7.25 4.035,7.25 4.035,5.5 4.415,5.5
  region: 3.765,7.25 3.385,7.25 3.385,5.5 3.765,5.5
  region: 3.115,7.25 2.735,7.25 2.735,5.5 3.115,5.5
  region: 2.465,7.25 2.085,7.25 2.085,5.5 2.465,5.5
  region: 1.815,7.25 1.435,7.25 1.435,5.5 1.815,5.5
  region: 1.165,7.25 0.785,7.25 0.785,5.5 1.165,5.5
  region: 0.515,7.25 0.135,7.25 0.135,5.5 0.515,5.5
  region: -0.135,7.25 -0.515,7.25 -0.515,5.5 -0.135,5.5
  region: -0.785,7.25 -1.165,7.25 -1.165,5.5 -0.785,5.5
  region: -1.435,7.25 -1.815,7.25 -1.815,5.5 -1.435,5.5
  region: -2.085,7.25 -2.465,7.25 -2.465,5.5 -2.085,5.5
  region: -2.735,7.25 -3.115,7.25 -3.115,5.5 -2.735,5.5
  region: -3.385,7.25 -3.765,7.25 -3.765,5.5 -3.385,5.5
  region: -4.035,7.25 -4.415,7.25 -4.415,5.5 -4.035,5.5
  region: -4.685,7.25 -5.065,7.25 -5.065,5.5 -4.685,5.5
  region: -5.335,7.25 -5.715,7.25 -5.715,5.5 -5.335,5.5
  rectangle: -8,-1.5 -6.5,1.5
  rectangle: 6.5,-1.5 8,1.5
  lines w0.203: -7.9,-1.56 -6.5,-1.56 -6.5,1.56 -7.9,1.56 ; 7.9,-1.56 6.5,-1.56 6.5,1.56 7.9,1.56

## QFN-44-7X7 [mil]
pads (45):
  rect 31.5x11.81 smd: 1(-130.91,98.43) 2(-130.91,78.74) 3(-130.91,59.06) 4(-130.91,39.37) 5(-130.91,19.69) 6(-130.91,0) 7(-130.91,-19.69) 8(-130.91,-39.37) 9(-130.91,-59.06) 10(-130.91,-78.74) 11(-130.91,-98.43) 23(130.91,-98.43) 24(130.91,-78.74) 25(130.91,-59.06) 26(130.91,-39.37) 27(130.91,-19.69) 28(130.91,0) 29(130.91,19.69) 30(130.91,39.37) 31(130.91,59.06) 32(130.91,78.74) 33(130.91,98.43)
  rect 11.81x31.5 smd: 12(-98.43,-130.91) 13(-78.74,-130.91) 14(-59.06,-130.91) 15(-39.37,-130.91) 16(-19.69,-130.91) 17(0,-130.91) 18(19.69,-130.91) 19(39.37,-130.91) 20(59.06,-130.91) 21(78.74,-130.91) 22(98.43,-130.91) 34(98.43,130.91) 35(78.74,130.91) 36(59.06,130.91) 37(39.37,130.91) 38(19.69,130.91) 39(0,130.91) 40(-19.69,130.91) 41(-39.37,130.91) 42(-59.06,130.91) 43(-78.74,130.91) 44(-98.43,130.91)
  rect 206.3x206.3 smd: TH(0,0)
Top Layer:
  rectangle: -128.94,120.08 -120.08,128.94
Top Paste:
  rectangle: -145.67,93.5 -116.14,103.35
  rectangle: -145.67,73.82 -116.14,83.66
  rectangle: -145.67,54.13 -116.14,63.98
  rectangle: -145.67,34.45 -116.14,44.29
  rectangle: -145.67,14.76 -116.14,24.61
  rectangle: -145.67,-4.92 -116.14,4.92
  rectangle: -145.67,-24.61 -116.14,-14.76
  rectangle: -145.67,-44.29 -116.14,-34.45
  rectangle: -145.67,-63.98 -116.14,-54.13
  rectangle: -145.67,-83.66 -116.14,-73.82
  rectangle: -145.67,-103.35 -116.14,-93.5
  region: -93.5,-145.67 -93.5,-116.14 -103.35,-116.14 -103.35,-145.67
  region: -73.81,-145.66 -73.81,-116.14 -83.66,-116.14 -83.66,-145.66
  region: -54.13,-145.67 -54.13,-116.14 -63.98,-116.14 -63.98,-145.67
  region: -34.45,-145.66 -34.45,-116.14 -44.3,-116.14 -44.3,-145.66
  region: -14.76,-145.67 -14.76,-116.14 -24.61,-116.14 -24.61,-145.67
  region: 4.93,-145.66 4.93,-116.14 -4.93,-116.14 -4.93,-145.66
  region: 24.61,-145.67 24.61,-116.14 14.76,-116.14 14.76,-145.67
  region: 44.3,-145.66 44.3,-116.14 34.45,-116.14 34.45,-145.66
  region: 63.98,-145.67 63.98,-116.14 54.13,-116.14 54.13,-145.67
  region: 83.66,-145.66 83.66,-116.14 73.81,-116.14 73.81,-145.66
  region: 103.35,-145.67 103.35,-116.14 93.5,-116.14 93.5,-145.67
  region: 145.67,-93.5 116.14,-93.5 116.14,-103.35 145.67,-103.35
  region: 145.67,-73.82 116.14,-73.82 116.14,-83.66 145.67,-83.66
  region: 145.67,-54.13 116.14,-54.13 116.14,-63.98 145.67,-63.98
  region: 145.67,-34.45 116.14,-34.45 116.14,-44.29 145.67,-44.29
  region: 145.67,-14.76 116.14,-14.76 116.14,-24.61 145.67,-24.61
  region: 145.67,4.92 116.14,4.92 116.14,-4.92 145.67,-4.92
  region: 145.67,24.61 116.14,24.61 116.14,14.76 145.67,14.76
  region: 145.67,44.29 116.14,44.29 116.14,34.45 145.67,34.45
  region: 145.67,63.98 116.14,63.98 116.14,54.13 145.67,54.13
  region: 145.67,83.66 116.14,83.66 116.14,73.82 145.67,73.82
  region: 145.67,103.35 116.14,103.35 116.14,93.5 145.67,93.5
  region: 93.5,145.67 93.5,116.14 103.35,116.14 103.35,145.67
  region: 73.81,145.66 73.81,116.14 83.66,116.14 83.66,145.66
  region: 54.13,145.67 54.13,116.14 63.98,116.14 63.98,145.67
  region: 34.45,145.66 34.45,116.14 44.3,116.14 44.3,145.66
  region: 14.76,145.67 14.76,116.14 24.61,116.14 24.61,145.67
  region: -4.93,145.66 -4.93,116.14 4.93,116.14 4.93,145.66
  region: -24.61,145.67 -24.61,116.14 -14.76,116.14 -14.76,145.67
  region: -44.3,145.66 -44.3,116.14 -34.45,116.14 -34.45,145.66
  region: -63.98,145.67 -63.98,116.14 -54.13,116.14 -54.13,145.67
  region: -83.66,145.66 -83.66,116.14 -73.81,116.14 -73.81,145.66
  region: -103.35,145.67 -103.35,116.14 -93.5,116.14 -93.5,145.67
Top Solder:
  rectangle: -148.62,90.55 -113.19,106.3
  rectangle: -148.62,70.87 -113.19,86.61
  rectangle: -148.62,51.18 -113.19,66.93
  rectangle: -148.62,31.5 -113.19,47.24
  rectangle: -148.62,11.81 -113.19,27.56
  rectangle: -148.62,-7.87 -113.19,7.87
  rectangle: -148.62,-27.56 -113.19,-11.81
  rectangle: -148.62,-47.24 -113.19,-31.5
  rectangle: -148.62,-66.93 -113.19,-51.18
  rectangle: -148.62,-86.61 -113.19,-70.87
  rectangle: -148.62,-106.3 -113.19,-90.55
  region: -90.55,-148.62 -90.55,-113.19 -106.3,-113.19 -106.3,-148.62
  region: -70.86,-148.62 -70.86,-113.19 -86.61,-113.19 -86.61,-148.62
  region: -51.18,-148.62 -51.18,-113.19 -66.93,-113.19 -66.93,-148.62
  region: -31.5,-148.62 -31.5,-113.19 -47.25,-113.19 -47.25,-148.62
  region: -11.81,-148.62 -11.81,-113.19 -27.56,-113.19 -27.56,-148.62
  region: 7.87,-148.62 7.88,-113.19 -7.87,-113.19 -7.88,-148.62
  region: 27.56,-148.62 27.56,-113.19 11.81,-113.19 11.81,-148.62
  region: 47.25,-148.62 47.25,-113.19 31.5,-113.19 31.5,-148.62
  region: 66.93,-148.62 66.93,-113.19 51.18,-113.19 51.18,-148.62
  region: 86.61,-148.62 86.61,-113.19 70.86,-113.19 70.86,-148.62
  region: 106.3,-148.62 106.3,-113.19 90.55,-113.19 90.55,-148.62
  region: 148.62,-90.55 113.19,-90.55 113.19,-106.3 148.62,-106.3
  region: 148.62,-70.87 113.19,-70.87 113.19,-86.61 148.62,-86.61
  region: 148.62,-51.18 113.19,-51.18 113.19,-66.93 148.62,-66.93
  region: 148.62,-31.5 113.19,-31.5 113.19,-47.24 148.62,-47.24
  region: 148.62,-11.81 113.19,-11.81 113.19,-27.56 148.62,-27.56
  region: 148.62,7.87 113.19,7.87 113.19,-7.87 148.62,-7.87
  region: 148.62,27.56 113.19,27.56 113.19,11.81 148.62,11.81
  region: 148.62,47.24 113.19,47.24 113.19,31.5 148.62,31.5
  region: 148.62,66.93 113.19,66.93 113.19,51.18 148.62,51.18
  region: 148.62,86.61 113.19,86.61 113.19,70.87 148.62,70.87
  region: 148.62,106.3 113.19,106.3 113.19,90.55 148.62,90.55
  region: 90.55,148.62 90.55,113.19 106.3,113.19 106.3,148.62
  region: 70.86,148.62 70.86,113.19 86.61,113.19 86.61,148.62
  region: 51.18,148.62 51.18,113.19 66.93,113.19 66.93,148.62
  region: 31.5,148.62 31.5,113.19 47.25,113.19 47.25,148.62
  region: 11.81,148.62 11.81,113.19 27.56,113.19 27.56,148.62
  region: -7.87,148.62 -7.88,113.19 7.87,113.19 7.88,148.62
  region: -27.56,148.62 -27.56,113.19 -11.81,113.19 -11.81,148.62
  region: -47.25,148.62 -47.25,113.19 -31.5,113.19 -31.5,148.62
  region: -66.93,148.62 -66.93,113.19 -51.18,113.19 -51.18,148.62
  region: -86.61,148.62 -86.61,113.19 -70.86,113.19 -70.86,148.62
  region: -106.3,148.62 -106.3,113.19 -90.55,113.19 -90.55,148.62
Mechanical 16:
  lines w4: -135.83,-135.83 135.83,-135.83 135.83,135.83 -135.83,135.83 -135.83,-135.83

## QFPN-28 [mil]
pads (29):
  rrect100% 35.43x17.72 smd: 1(-126.97,94.49) 2(-126.97,62.99) 3(-126.97,31.5) 4(-126.97,0) 5(-126.97,-31.5) 6(-126.97,-62.99) 7(-126.97,-94.49) 15(126.97,-94.49) 16(126.97,-62.99) 17(126.97,-31.5) 18(126.97,0) 19(126.97,31.5) 20(126.97,62.99) 21(126.97,94.49)
  rrect100% 17.72x35.43 smd: 8(-94.49,-126.97) 9(-62.99,-126.97) 10(-31.5,-126.97) 11(0,-126.97) 12(31.5,-126.97) 13(62.99,-126.97) 14(94.49,-126.97) 22(94.49,126.97) 23(62.99,126.97) 24(31.5,126.97) 25(0,126.97) 26(-31.5,126.97) 27(-62.99,126.97) 28(-94.49,126.97)
  rect 196.85x196.85 smd: TH(0,0)
Top Layer:
  rectangle: -128.94,120.08 -120.08,128.94
Top Paste:
  rectangle: -78.74,-78.74 78.74,78.74
Top Solder:
  rectangle: -99.41,-99.41 99.41,99.41
Mechanical 16:
  lines w4: -135.83,-135.83 135.83,-135.83 135.83,135.83 -135.83,135.83 -135.83,-135.83

## SDIP-25L [mm]
pads (25):
  round 1.2 hole 0.7: 1(-20.85,13.45) 2(-18.5,13.45) 3(-14.9,13.45) 4(-12.55,13.45) 5(-10.2,13.45) 6(-6.6,13.45) 7(-4.25,13.45) 8(-0.65,13.45) 9(1.7,13.45) 10(4.05,13.45) 11(7.65,13.45) 12(10,13.45) 13(13.6,13.45) 14(15.95,13.45) 15(18.3,13.45) 16(20.65,13.45) 17(20.6,-11.75) 18(15.9,-11.75) 19(11.2,-11.75) 20(6.5,-11.75) 21(0,-11.75) 22(-6.5,-11.75) 23(-11.2,-11.75) 24(-15.9,-11.75) 25(-20.6,-11.75)
Top Overlay:
  circle w0.203: c-19.625,9.375 r0.805
  lines w0.203: -22.2,-10.15 -22.2,-1.75 -19.7,-1.75 ccw(c-19.7,0) -19.7,1.75 -22.2,1.75 -22.2,11.85 -16.92,11.85 -16.92,10.81 -16.215,10.81 -16.215,11.85 -8.695,11.85 -8.695,10.81 -7.99,10.81 -7.99,11.85 -2.585,11.85 -2.585,10.81 -1.88,10.81 -1.88,11.85 5.64,11.85 5.64,10.81 6.345,10.81 6.345,11.85 11.515,11.85 11.515,10.81 12.22,10.81 12.22,11.85 22.2,11.85 22.2,1.75 19.7,1.75 ccw(c19.7,0) 19.7,-1.75 22.2,-1.75 22.2,-10.15 -22.2,-10.15
Mechanical 16:
  rectangle: -21.225,11.95 -20.475,13.525
  rectangle: -18.875,11.95 -18.125,13.525
  rectangle: -15.275,11.95 -14.525,13.525
  rectangle: -12.925,11.95 -12.175,13.525
  rectangle: -10.575,11.95 -9.825,13.525
  rectangle: -6.975,11.95 -6.225,13.525
  rectangle: -4.625,11.95 -3.875,13.525
  rectangle: -1.025,11.95 -0.275,13.525
  rectangle: 1.325,11.95 2.075,13.525
  rectangle: 3.675,11.95 4.425,13.525
  rectangle: 7.275,11.95 8.025,13.525
  rectangle: 9.625,11.95 10.375,13.525
  rectangle: 13.225,11.95 13.975,13.525
  rectangle: 15.575,11.95 16.325,13.525
  rectangle: 17.925,11.95 18.675,13.525
  rectangle: 20.275,11.95 21.025,13.525
  rectangle: -20.975,-11.875 -20.225,-10.225
  rectangle: -16.275,-11.875 -15.525,-10.225
  rectangle: -11.575,-11.875 -10.825,-10.225
  rectangle: -6.875,-11.875 -6.125,-10.225
  rectangle: -0.375,-11.875 0.375,-10.225
  rectangle: 6.125,-11.875 6.875,-10.225
  rectangle: 10.825,-11.875 11.575,-10.225
  rectangle: 15.525,-11.875 16.275,-10.225
  rectangle: 20.225,-11.875 20.975,-10.225

## SO08 [mil]
pads (8):
  rect 23.62x86.61 smd: 1(-75,-102.36) 2(-25,-102.36) 3(25,-102.36) 4(75,-102.36) 5(75,102.36) 6(25,102.36) 7(-25,102.36) 8(-75,102.36)
Mechanical 16:
  rectangle: -84.65,-122.05 -65.35,-78.74
  rectangle: -34.65,-122.05 -15.35,-78.74
  rectangle: 15.35,-122.05 34.65,-78.74
  rectangle: 65.35,-122.05 84.65,-78.74
  rectangle: 65.35,78.74 84.65,122.05
  rectangle: 15.35,78.74 34.65,122.05
  rectangle: -34.65,78.74 -15.35,122.05
  rectangle: -84.65,78.74 -65.35,122.05
  lines w8: -94.49,-55.12 -94.49,-74.8 94.49,-74.8 94.49,-55.12 ; -94.49,-55.12 -94.49,74.8 94.49,74.8 94.49,-55.12 ; -94.49,-55.12 94.49,-55.12
Mechanical 27:
  lines w7.87: -114.17,-153.54 114.17,-153.54 114.17,153.54 -114.17,153.54 -114.17,-153.54

## SO20 [mil]
pads (20):
  rect 23.62x86.61 smd: 1(-225,-181.1) 2(-175,-181.1) 3(-125,-181.1) 4(-75,-181.1) 5(-25,-181.1) 6(25,-181.1) 7(75,-181.1) 8(125,-181.1) 9(175,-181.1) 10(225,-181.1) 11(225,181.1) 12(175,181.1) 13(125,181.1) 14(75,181.1) 15(25,181.1) 16(-25,181.1) 17(-75,181.1) 18(-125,181.1) 19(-175,181.1) 20(-225,181.1)
Mechanical 16:
  rectangle: -234.65,-209.45 -215.35,-149.61
  rectangle: -184.65,-209.45 -165.35,-149.61
  rectangle: -134.65,-209.45 -115.35,-149.61
  rectangle: -84.65,-209.45 -65.35,-149.61
  rectangle: -34.65,-209.45 -15.35,-149.61
  rectangle: 15.35,-209.45 34.65,-149.61
  rectangle: 65.35,-209.45 84.65,-149.61
  rectangle: 115.35,-209.45 134.65,-149.61
  rectangle: 165.35,-209.45 184.65,-149.61
  rectangle: 215.35,-209.45 234.65,-149.61
  rectangle: 215.35,149.61 234.65,209.45
  rectangle: 165.35,149.61 184.65,209.45
  rectangle: 115.35,149.61 134.65,209.45
  rectangle: 65.35,149.61 84.65,209.45
  rectangle: 15.35,149.61 34.65,209.45
  rectangle: -34.65,149.61 -15.35,209.45
  rectangle: -84.65,149.61 -65.35,209.45
  rectangle: -134.65,149.61 -115.35,209.45
  rectangle: -184.65,149.61 -165.35,209.45
  rectangle: -234.65,149.61 -215.35,209.45
  lines w8: -254.33,-125.98 -254.33,-145.67 254.33,-145.67 254.33,-125.98 ; -254.33,-125.98 -254.33,145.67 254.33,145.67 254.33,-125.98 ; -254.33,-125.98 254.33,-125.98

## SO24W [mil]
pads (24):
  rect 23.62x86.61 smd: 1(-275,-181.1) 2(-225,-181.1) 3(-175,-181.1) 4(-125,-181.1) 5(-75,-181.1) 6(-25,-181.1) 7(25,-181.1) 8(75,-181.1) 9(125,-181.1) 10(175,-181.1) 11(225,-181.1) 12(275,-181.1) 13(275,181.1) 14(225,181.1) 15(175,181.1) 16(125,181.1) 17(75,181.1) 18(25,181.1) 19(-25,181.1) 20(-75,181.1) 21(-125,181.1) 22(-175,181.1) 23(-225,181.1) 24(-275,181.1)
Mechanical 16:
  rectangle: -284.65,-209.45 -265.35,-149.61
  rectangle: -234.65,-209.45 -215.35,-149.61
  rectangle: -184.65,-209.45 -165.35,-149.61
  rectangle: -134.65,-209.45 -115.35,-149.61
  rectangle: -84.65,-209.45 -65.35,-149.61
  rectangle: -34.65,-209.45 -15.35,-149.61
  rectangle: 15.35,-209.45 34.65,-149.61
  rectangle: 65.35,-209.45 84.65,-149.61
  rectangle: 115.35,-209.45 134.65,-149.61
  rectangle: 165.35,-209.45 184.65,-149.61
  rectangle: 215.35,-209.45 234.65,-149.61
  rectangle: 265.35,-209.45 284.65,-149.61
  rectangle: 265.35,149.61 284.65,209.45
  rectangle: 215.35,149.61 234.65,209.45
  rectangle: 165.35,149.61 184.65,209.45
  rectangle: 115.35,149.61 134.65,209.45
  rectangle: 65.35,149.61 84.65,209.45
  rectangle: 15.35,149.61 34.65,209.45
  rectangle: -34.65,149.61 -15.35,209.45
  rectangle: -84.65,149.61 -65.35,209.45
  rectangle: -134.65,149.61 -115.35,209.45
  rectangle: -184.65,149.61 -165.35,209.45
  rectangle: -234.65,149.61 -215.35,209.45
  rectangle: -284.65,149.61 -265.35,209.45
  lines w8: -306.3,-125.98 -306.3,-145.67 306.3,-145.67 306.3,-125.98 ; -306.3,-125.98 -306.3,145.67 306.3,145.67 306.3,-125.98 ; -306.3,-125.98 306.3,-125.98
Mechanical 27:
  lines w7.87: -310.83,-232.28 310.83,-232.28 310.83,232.28 -310.83,232.28 -310.83,-232.28